# Altium footprint library VLP.PcbLib: 2 footprints
Each footprint in its own frame and in the unit in brackets; x right, y up, seen from the top. Pads: shape width x height; smd on the part's side, far side on the other; paste and mask are expansions set on the pad; w line width, h text height; cw(c..) or ccw(c..) is an arc to the next point about the centre after c.
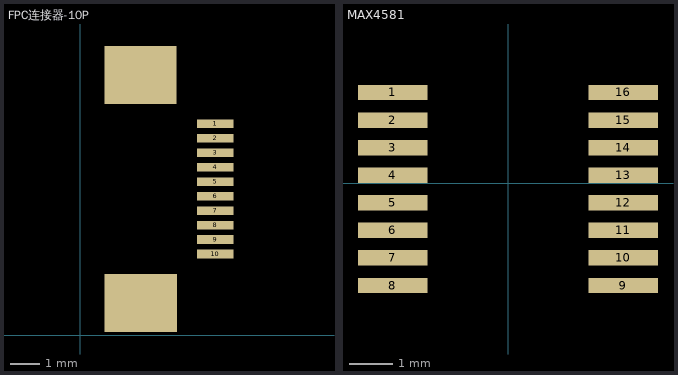
[diagram p0: the footprints below, top view; thin cyan lines are the x and y axes]

## FPC连接器-10P [mm]
pads (12):
  rect 1.27x0.3 smd mask+0.05: 1(4.666,7.303) 2(4.666,6.803) 3(4.666,6.303) 4(4.666,5.803) 5(4.666,5.303) 6(4.666,4.803) 7(4.666,4.303) 8(4.666,3.803) 9(4.666,3.303) 10(4.666,2.803)
  rect 2.5x2 smd: ""(2.08,8.98) ""(2.09,1.12)

## MAX4581 [mil]
pads (16):
  rect 63x14 smd paste+0 mask+0: 1(-104.5,82.5) 2(-104.5,57.5) 3(-104.5,32.5) 4(-104.5,7.5) 5(-104.5,-17.5) 6(-104.5,-42.5) 7(-104.5,-67.5) 8(-104.5,-92.5) 9(104.5,-92.5) 10(104.5,-67.5) 11(104.5,-42.5) 12(104.5,-17.5) 13(104.5,7.5) 14(104.5,32.5) 15(104.5,57.5) 16(104.5,82.5)